# Altium footprint library bj Lib.PcbLib: 33 footprints (part 3 of 3)
Each footprint in its own frame and in the unit in brackets; x right, y up, seen from the top. Pads: shape width x height; smd on the part's side, far side on the other; paste and mask are expansions set on the pad; w line width, h text height; cw(c..) or ccw(c..) is an arc to the next point about the centre after c.
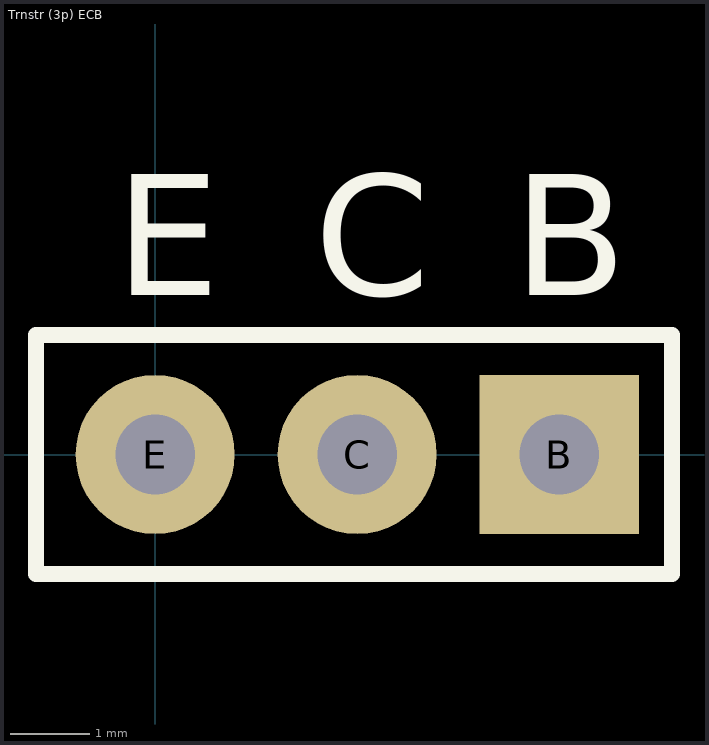
[diagram p2: the footprint, top view; thin cyan lines are the x and y axes]

## Trnstr (3p) ECB [mm] "L p7.62; horisontal"
height 2
pads (3):
  rect 2x2 hole 1: B(5.08,0)
  round 2 hole 1: C(2.54,0) E(0,0)
Top Overlay:
  lines w0.2: -1.5,-1.5 -1.5,1.5 6.5,1.5 6.5,-1.5 -1.5,-1.5
  text "B" at 4.5,2 h1.52
  text "E" at -0.5,2 h1.52
  text "C" at 2,2 h1.52